# EAGLE library part TQFP44&32 (library SmallRoomLabs)
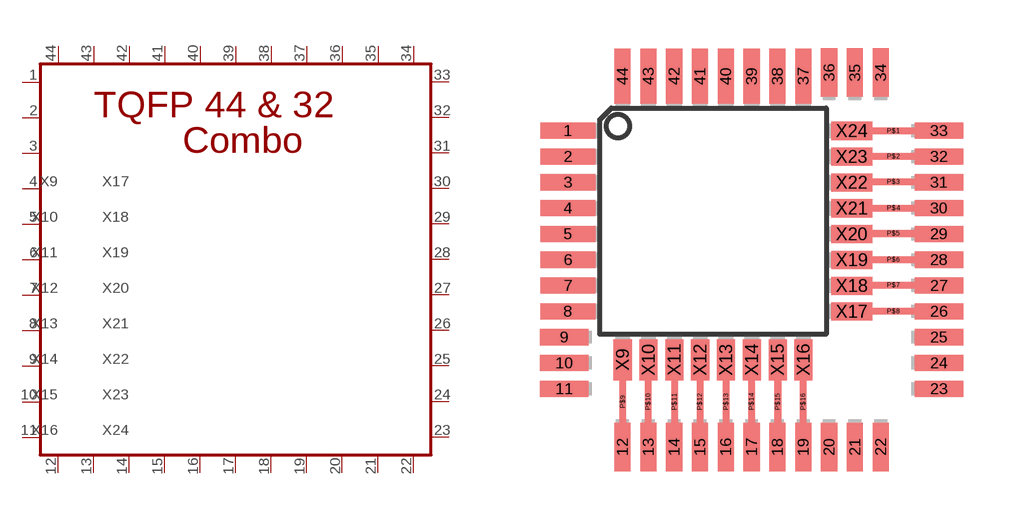
[diagram p4: symbol with the pads of TQFP44&32; footprint TQFP44&32]

Designator prefix -

## TQFP44&32  [TQFP44&32]
1  P$1
2  P$2
3  P$3
4  P$4
5  P$5
6  P$6
7  P$7
8  P$8
9  P$9
10  P$10
11  P$11
12  P$12
13  P$13
14  P$14
15  P$15
16  P$16
17  P$17
18  P$18
19  P$19
20  P$20
21  P$21
22  P$22
23  P$23
24  P$24
25  P$25
26  P$26
27  P$27
28  P$28
29  P$29
30  P$30
31  P$31
32  P$32
33  P$33
34  P$34
35  P$35
36  P$36
37  P$37
38  P$38
39  P$39
40  P$40
41  P$41
42  P$42
43  P$43
44  P$44
X9  X1  nc
X10  X2  nc
X11  X3  nc
X12  X4  nc
X13  X5  nc
X14  X6  nc
X15  X7  nc
X16  X8  nc
X17  X9  nc
X18  X10  nc
X19  X11  nc
X20  X12  nc
X21  X13  nc
X22  X14  nc
X23  X15  nc
X24  X16  nc

## Footprint TQFP44&32 (pad centres in mm)
smd 1.702 x 0.5: 1 -5.69,4; 2 -5.69,3.2; 3 -5.69,2.4; 4 -5.69,1.6; 5 -5.69,0.8; 6 -5.69,0; 7 -5.69,-0.8; 8 -5.69,-1.6
smd 1.5 x 0.5: 9 -5.8,-2.4; 10 -5.8,-3.2; 11 -5.8,-4; 23 5.8,-4; 24 5.8,-3.2; 25 5.8,-2.4; 26 5.8,-1.6; 27 5.8,-0.8; 28 5.8,0; 29 5.8,0.8; 30 5.8,1.6; 31 5.8,2.4; 32 5.8,3.2; 33 5.8,4
smd 0.5 x 1.5: 12 -4,-5.8; 13 -3.2,-5.8; 14 -2.4,-5.8; 15 -1.6,-5.8; 16 -0.8,-5.8; 17 0,-5.8; 18 0.8,-5.8; 19 1.6,-5.8; 20 2.4,-5.8; 21 3.2,-5.8; 22 4,-5.8; 34 4,5.8; 35 3.2,5.8; 36 2.4,5.8
smd 0.5 x 1.702: 37 1.6,5.69; 38 0.8,5.69; 39 0,5.69; 40 -0.8,5.69; 41 -1.6,5.69; 42 -2.4,5.69; 43 -3.2,5.69; 44 -4,5.69
smd 1.372 x 0.203: P$1 4.394,3.988; P$2 4.394,3.2; P$3 4.394,2.413; P$4 4.394,1.6; P$5 4.394,0.813; P$6 4.394,0; P$7 4.394,-0.787; P$8 4.394,-1.6
smd 0.203 x 1.372: P$9 -3.988,-4.394; P$10 -3.2,-4.394; P$11 -2.388,-4.394; P$12 -1.6,-4.394; P$13 -0.787,-4.394; P$14 0,-4.394; P$15 0.813,-4.394; P$16 1.6,-4.394
smd 0.559 x 1.27: X9 -3.994,-3.099; X10 -3.194,-3.099; X11 -2.394,-3.099; X12 -1.594,-3.099; X13 -0.794,-3.099; X14 0.006,-3.099; X15 0.806,-3.099; X16 1.606,-3.099
smd 1.27 x 0.559: X17 3.099,-1.606; X18 3.099,-0.806; X19 3.099,-0.006; X20 3.099,0.794; X21 3.099,1.594; X22 3.099,2.394; X23 3.099,3.194; X24 3.099,3.994